# EAGLE library part TPS54331DR (library rp2040)
3A 28V SOIC-8_150mil DC-DC Converter Manufacturer: Texas Instruments MFR.Part: #TPS54331DR JLCPCB Part: #C9865 Package: SSOIC-8_3.9x4.9x1.27P Description: 3A 28V SOIC-8_150mil DC-DC Converters ROHS Datasheet <https://datasheet.lcsc.com/lcsc/1808272040_Texas-Instruments-TPS54331DR_C9865.pdf>
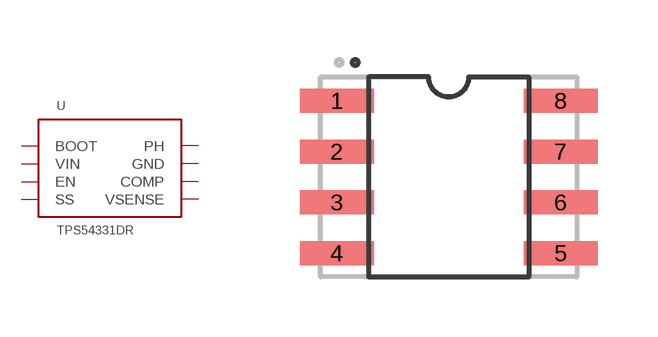
[diagram p0: symbol with the pads of SOIC8; footprint SOIC8]

Designator prefix -

## TPS54331DR  [SOIC8]
1  BOOT
2  VIN
3  EN
4  SS
5  VSENSE
6  COMP
7  GND
8  PH

## Footprint SOIC8 (pad centres in mm)
SOIC-8 Pad size: 1.85 x 0.6 mm
smd 1.85 x 0.6: 1 -2.8,1.905; 2 -2.8,0.635; 3 -2.8,-0.635; 4 -2.8,-1.905; 5 2.8,-1.905; 6 2.8,-0.635; 7 2.8,0.635; 8 2.8,1.905